# Altium footprint library CAP_TH_RAD_5MM.PcbLib: 2 footprints
Each footprint in its own frame and in the unit in brackets; x right, y up, seen from the top. Pads: shape width x height; smd on the part's side, far side on the other; paste and mask are expansions set on the pad; w line width, h text height; cw(c..) or ccw(c..) is an arc to the next point about the centre after c.
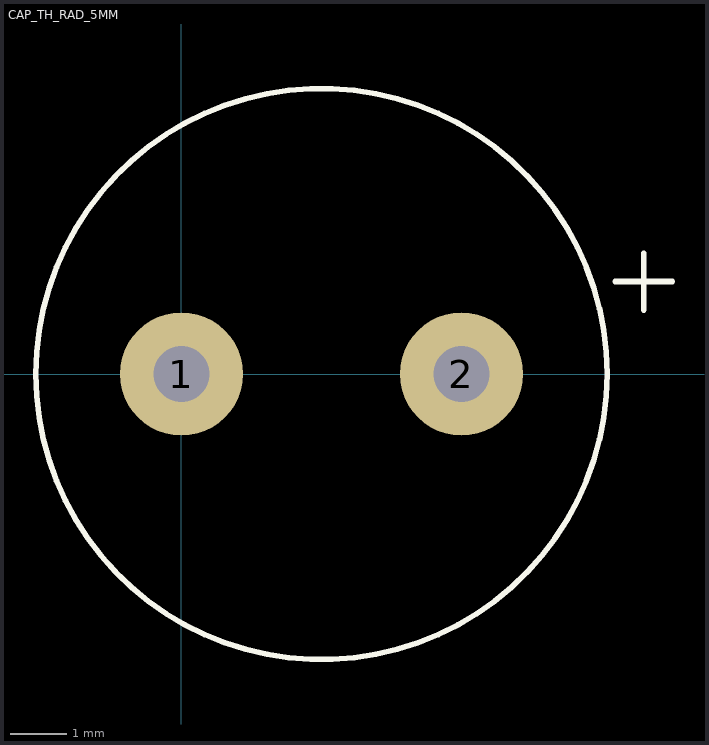
[diagram p0: the footprints below, top view; thin cyan lines are the x and y axes]

## CAP_TH_RAD_5MM [mm]
pads (2):
  round 2.2 hole 1: 1(0,0) 2(5,0)
Top Overlay:
  circle w0.1: c2.5,0 r5.1
  lines w0.1: 7.747,1.651 8.763,1.651 ; 8.255,1.143 8.255,2.159

## PCBComponent_1 [mm]